# Altium schematic symbol library SCH - DRIVER - MOTOR - TRINAMIC TMC5160A-TA-T.SCHLIB: 1 symbol
Pins are listed as number, name and electrical type; pins without a type are passive.

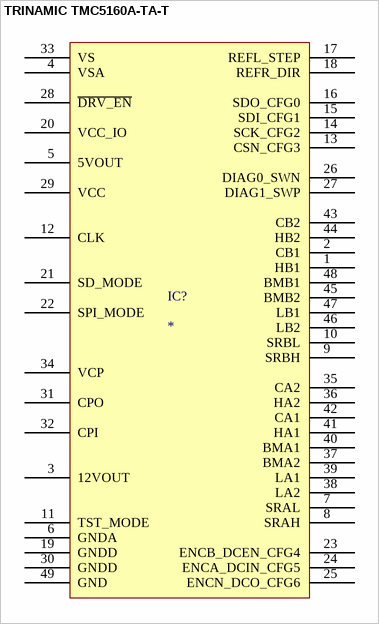
[diagram p0: symbol TRINAMIC TMC5160A-TA-T]

## TRINAMIC TMC5160A-TA-T
designator IC?
pins: 1 HB1, 2 CB1, 3 12VOUT, 4 VSA, 5 5VOUT, 6 GNDA, 7 SRAL, 8 SRAH, 9 SRBH, 10 SRBL, 11 TST_MODE, 12 CLK, 13 CSN_CFG3, 14 SCK_CFG2, 15 SDI_CFG1, 16 SDO_CFG0, 17 REFL_STEP, 18 REFR_DIR, 19 GNDD, 20 VCC_IO, 21 SD_MODE, 22 SPI_MODE, 23 ENCB_DCEN_CFG4, 24 ENCA_DCIN_CFG5, 25 ENCN_DCO_CFG6, 26 DIAG0_SWN, 27 DIAG1_SWP, 28 ~{DRV_EN}, 29 VCC, 30 GNDD, 31 CPO, 32 CPI, 33 VS, 34 VCP, 35 CA2, 36 HA2, 37 BMA2, 38 LA2, 39 LA1, 40 BMA1, 41 HA1, 42 CA1, 43 CB2, 44 HB2, 45 BMB2, 46 LB2, 47 LB1, 48 BMB1, 49 GND